# Altium footprint library PcbLib1.PcbLib: 10 footprints
Each footprint in its own frame and in the unit in brackets; x right, y up, seen from the top. Pads: shape width x height; smd on the part's side, far side on the other; paste and mask are expansions set on the pad; w line width, h text height; cw(c..) or ccw(c..) is an arc to the next point about the centre after c.
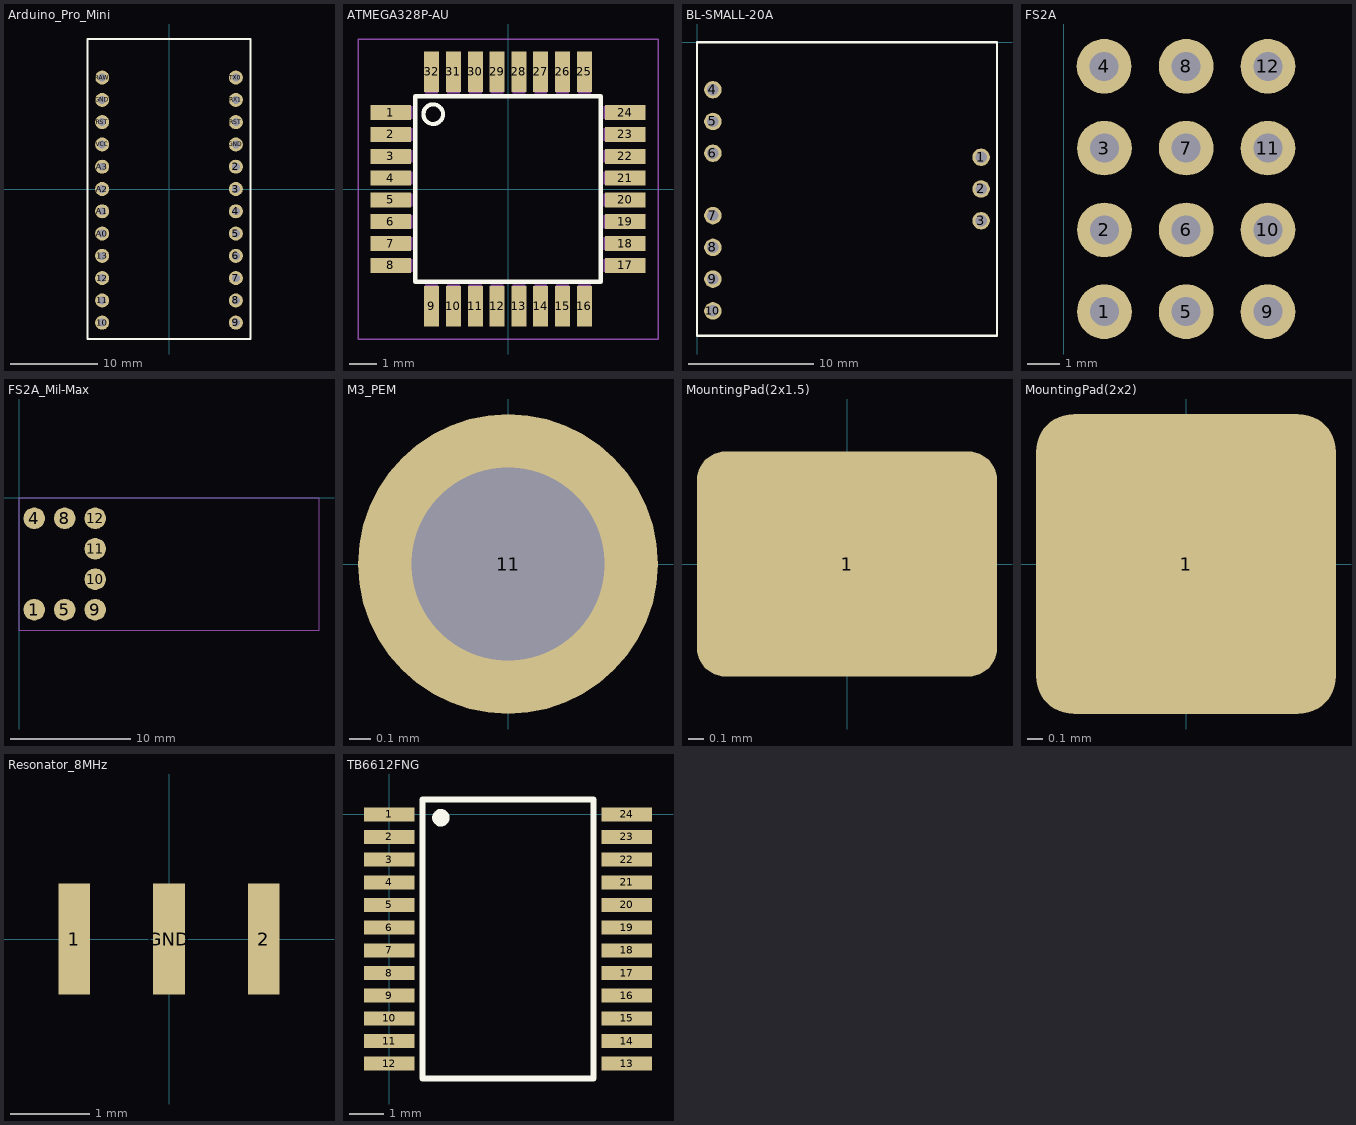
[diagram p0: the footprints below, top view; thin cyan lines are the x and y axes]

## Arduino_Pro_Mini [mm]
pads (24):
  round 1.6 hole 0.9: 2(7.62,2.54) 3(7.62,0) 4(7.62,-2.54) 5(7.62,-5.08) 6(7.62,-7.62) 7(7.62,-10.16) 8(7.62,-12.7) 9(7.62,-15.24) 10(-7.62,-15.24) 11(-7.62,-12.7) 12(-7.62,-10.16) 13(-7.62,-7.62) A0(-7.62,-5.08) A1(-7.62,-2.54) A2(-7.62,0) A3(-7.62,2.54) GND(-7.62,10.16) GND(7.62,5.08) RAW(-7.62,12.7) RST(-7.62,7.62) RST(7.62,7.62) RX1(7.62,10.16) TX0(7.62,12.7) VCC(-7.62,5.08)
Top Overlay:
  lines w0.254: -9.3,-17.1 9.3,-17.1 9.3,17.1 -9.3,17.1 -9.3,-17.1

## ATMEGA328P-AU [mm]
pads (32):
  rect 1.5x0.55 smd: 1(-4.3,2.8) 2(-4.3,2) 3(-4.3,1.2) 4(-4.3,0.4) 5(-4.3,-0.4) 6(-4.3,-1.2) 7(-4.3,-2) 8(-4.3,-2.8) 17(4.3,-2.8) 18(4.3,-2) 19(4.3,-1.2) 20(4.3,-0.4) 21(4.3,0.4) 22(4.3,1.2) 23(4.3,2) 24(4.3,2.8)
  rect 0.55x1.5 smd: 9(-2.8,-4.3) 10(-2,-4.3) 11(-1.2,-4.3) 12(-0.4,-4.3) 13(0.4,-4.3) 14(1.2,-4.3) 15(2,-4.3) 16(2.8,-4.3) 25(2.8,4.3) 26(2,4.3) 27(1.2,4.3) 28(0.4,4.3) 29(-0.4,4.3) 30(-1.2,4.3) 31(-2,4.3) 32(-2.8,4.3)
Top Overlay:
  circle w0.152: c-2.743,2.743 r0.359
  lines w0.152: -3.4,-3.4 -3.4,3.4 3.4,3.4 3.4,-3.4 -3.4,-3.4
Mechanical 13:
  region: -2.571,3.509 -3.032,3.509 -3.032,4.497 -2.571,4.497
  region: -1.771,3.512 -2.233,3.512 -2.233,4.497 -1.771,4.497
  region: -0.971,3.508 -1.43,3.508 -1.43,4.497 -0.971,4.497
  region: -0.171,3.513 -0.63,3.513 -0.63,4.497 -0.171,4.497
  region: 0.629,3.506 0.171,3.506 0.171,4.497 0.629,4.497
  region: 1.429,3.509 0.972,3.509 0.972,4.497 1.429,4.497
  region: 2.229,3.511 1.774,3.511 1.774,4.497 2.229,4.497
  region: 3.029,3.513 2.576,3.513 2.576,4.497 3.029,4.497
  region: 4.497,2.575 3.511,2.575 3.511,3.029 4.497,3.029
  region: 4.497,1.774 3.511,1.774 3.511,2.229 4.497,2.229
  region: 4.497,0.973 3.511,0.973 3.511,1.429 4.497,1.429
  region: 4.497,0.172 3.509,0.172 3.509,0.629 4.497,0.629
  region: 4.497,-0.629 3.509,-0.629 3.509,-0.171 4.497,-0.171
  region: 4.497,-1.431 3.511,-1.431 3.511,-0.971 4.497,-0.971
  region: 4.497,-2.233 3.513,-2.233 3.513,-1.771 4.497,-1.771
  region: 4.497,-3.029 3.507,-3.029 3.507,-2.571 4.497,-2.571
  region: 3.029,-4.503 2.575,-4.503 2.575,-3.506 3.029,-3.506
  region: 2.229,-4.504 1.774,-4.504 1.774,-3.506 2.229,-3.506
  region: 1.429,-4.498 0.972,-4.498 0.972,-3.506 1.429,-3.506
  region: 0.629,-4.502 0.172,-4.502 0.172,-3.506 0.629,-3.506
  region: -0.171,-4.498 -0.629,-4.498 -0.629,-3.506 -0.171,-3.506
  region: -0.971,-4.504 -1.431,-4.504 -1.431,-3.506 -0.971,-3.506
  region: -1.771,-4.5 -2.23,-4.5 -2.23,-3.506 -1.771,-3.506
  region: -2.571,-4.505 -3.035,-4.505 -3.035,-3.506 -2.571,-3.506
  region: -3.506,-3.032 -4.501,-3.032 -4.501,-2.571 -3.506,-2.571
  region: -3.506,-2.231 -4.501,-2.231 -4.501,-1.771 -3.506,-1.771
  region: -3.506,-1.43 -4.502,-1.43 -4.502,-0.971 -3.506,-0.971
  region: -3.506,-0.629 -4.503,-0.629 -4.503,-0.171 -3.506,-0.171
  region: -3.506,0.172 -4.5,0.172 -4.5,0.629 -3.506,0.629
  region: -3.506,0.972 -4.5,0.972 -4.5,1.429 -3.506,1.429
  region: -3.506,1.775 -4.505,1.775 -4.505,2.229 -3.506,2.229
  region: -3.506,2.572 -4.497,2.572 -4.497,3.029 -3.506,3.029
Mechanical 15:
  lines w0.05: -5.5,-5.5 -5.5,5.5 5.5,5.5 5.5,-5.5 -5.5,-5.5

## BL-SMALL-20A [mm]
pads (10):
  round 1.4 hole 0.9: 1(22.73,-9.21) 2(22.73,-11.75) 3(22.73,-14.29) 4(1.27,-3.81) 5(1.27,-6.35) 6(1.27,-8.89) 7(1.27,-13.88) 8(1.27,-16.42) 9(1.27,-18.96) 10(1.27,-21.5)
Top Overlay:
  lines w0.2: 0,-23.5 0,0 24,0 24,-23.5 0,-23.5

## FS2A [mm]
pads (12):
  round 1.7 hole 0.9: 1(1.27,-9.31) 2(1.27,-6.77) 3(1.27,-4.23) 4(1.26,-1.69) 5(3.81,-9.31) 6(3.81,-6.77) 7(3.81,-4.23) 8(3.81,-1.69) 9(6.35,-9.31) 10(6.35,-6.77) 11(6.35,-4.23) 12(6.35,-1.69)

## FS2A_Mil-Max [mm]
pads (8):
  round 1.8 smd: 1(1.27,-9.31) 4(1.27,-1.69) 5(3.81,-9.31) 8(3.81,-1.69) 9(6.35,-9.31) 10(6.35,-6.77) 11(6.35,-4.23) 12(6.35,-1.69)
Mechanical 1:
  lines w0.05: 0,-11 0,0 25,0 25,-11 0,-11

## M3_PEM [mm]
pads (1):
  round 1.4 hole 0.9: 11(0,0)

## MountingPad(2x1.5) [mm]
pads (1):
  rrect25% 2x1.5 smd: 1(0,0)

## MountingPad(2x2) [mm]
pads (1):
  rrect25% 2x2 smd: 1(0,0)

## Resonator_8MHz [mm]
pads (3):
  rect 0.4x1.4 smd: 1(-1.2,0) 2(1.2,0) GND(0,0)

## TB6612FNG [mm]
pads (24):
  rect 1.45x0.4 smd: 1(0,0) 2(0,-0.65) 3(0,-1.3) 4(0,-1.95) 5(0,-2.6) 6(0,-3.25) 7(0,-3.9) 8(0,-4.55) 9(0,-5.2) 10(0,-5.85) 11(0,-6.5) 12(0,-7.15) 13(6.8,-7.15) 14(6.8,-6.5) 15(6.8,-5.85) 16(6.8,-5.2) 17(6.8,-4.55) 18(6.8,-3.9) 19(6.8,-3.25) 20(6.8,-2.6) 21(6.8,-1.95) 22(6.8,-1.3) 23(6.8,-0.65) 24(6.8,0)
Top Overlay:
  circle w0.25: c1.475,-0.1 r0.125
  lines w0.16: 0.95,-7.575 0.95,0.425 5.85,0.425 5.85,-7.575 0.95,-7.575